# Altium integrated library GRM21BR61E106KA73K.IntLib: 1 symbol
Pins are listed as number, name and electrical type; pins without a type are passive.

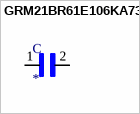
[diagram p0: symbol GRM21BR61E106KA73K]

## GRM21BR61E106KA73K
designator C
SMD Capacitor X5R_EIA_ with Capacitance: 10uF Tol. 10%. Rated Voltage: 25Vdc; MP: GRM21BR61E106KA73K; MF: Murata; Value: *; Digi-Key_Purchase_URL: https://www.digikey.com/product-detail/en/murata-electronics/GRM21BR61E106KA73K/490-16824-1-ND/7595732?utm_source=snapeda&utm_medium=aggregator&utm_campaign=symbol; Package: 2012 Murata; Digi-Key_Part_Number: 490-16824-1-ND; SnapEDA_Link: https://www.snapeda.com/parts/GRM21BR61E106KA73K/Murata/view-part/4375513/?ref=snap
footprint CAPC2012X140N
pins: 1, 2